# EAGLE library part DECADE-ATMEGA64M1 (library DECADE-libraries)
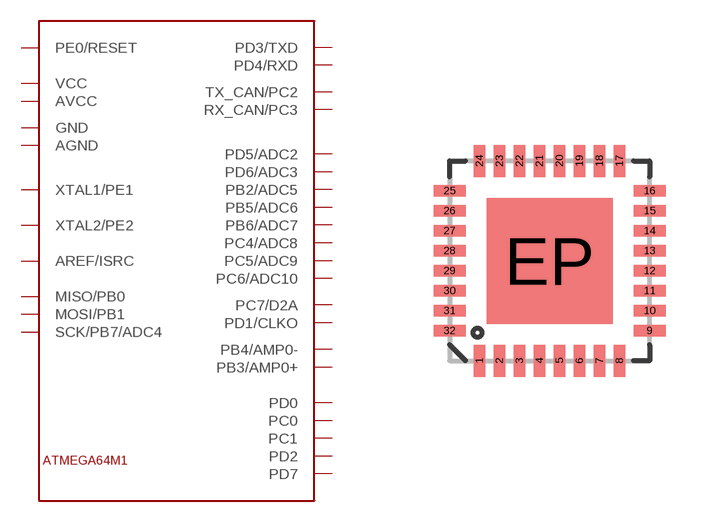
[diagram p12: symbol with the pads of DECADE-QFN-32; footprint DECADE-QFN-32]

Designator prefix -

## DECADE-ATMEGA64M1  [DECADE-QFN-32]
1  PD2
2  PD3/TXD
3  PC1
4  VCC
5  GND
6  TX_CAN/PC2
7  RX_CAN/PC3
8  MISO/PB0
9  MOSI/PB1
10  XTAL1/PE1
11  XTAL2/PE2
12  PD4/RXD
13  PD5/ADC2
14  PD6/ADC3
15  PD7
16  PB2/ADC5
17  PC4/ADC8
18  PC5/ADC9
19  AVCC
20  AGND
21  AREF/ISRC
22  PC6/ADC10
23  PB3/AMP0+
24  PB4/AMP0-
25  PC7/D2A
26  PB5/ADC6
27  PB6/ADC7
28  SCK/PB7/ADC4
29  PD0
30  PC0
31  PE0/RESET
32  PD1/CLKO

## Footprint DECADE-QFN-32 (pad centres in mm)
QFN-32
smd 0.285 x 0.8: 1 -1.75,-2.5; 2 -1.25,-2.5; 3 -0.75,-2.5; 4 -0.25,-2.5; 5 0.25,-2.5; 6 0.75,-2.5; 7 1.25,-2.5; 8 1.75,-2.5; 17 1.75,2.5; 18 1.25,2.5; 19 0.75,2.5; 20 0.25,2.5; 21 -0.25,2.5; 22 -0.75,2.5; 23 -1.25,2.5; 24 -1.75,2.5
smd 0.8 x 0.285: 9 2.5,-1.75; 10 2.5,-1.25; 11 2.5,-0.75; 12 2.5,-0.25; 13 2.5,0.25; 14 2.5,0.75; 15 2.5,1.25; 16 2.5,1.75; 25 -2.5,1.75; 26 -2.5,1.25; 27 -2.5,0.75; 28 -2.5,0.25; 29 -2.5,-0.25; 30 -2.5,-0.75; 31 -2.5,-1.25; 32 -2.5,-1.75
smd 3.15 x 3.15: EP 0,0